# Altium integrated library National Semiconductor Interface.IntLib: 1433 symbols (part 37 of 51)
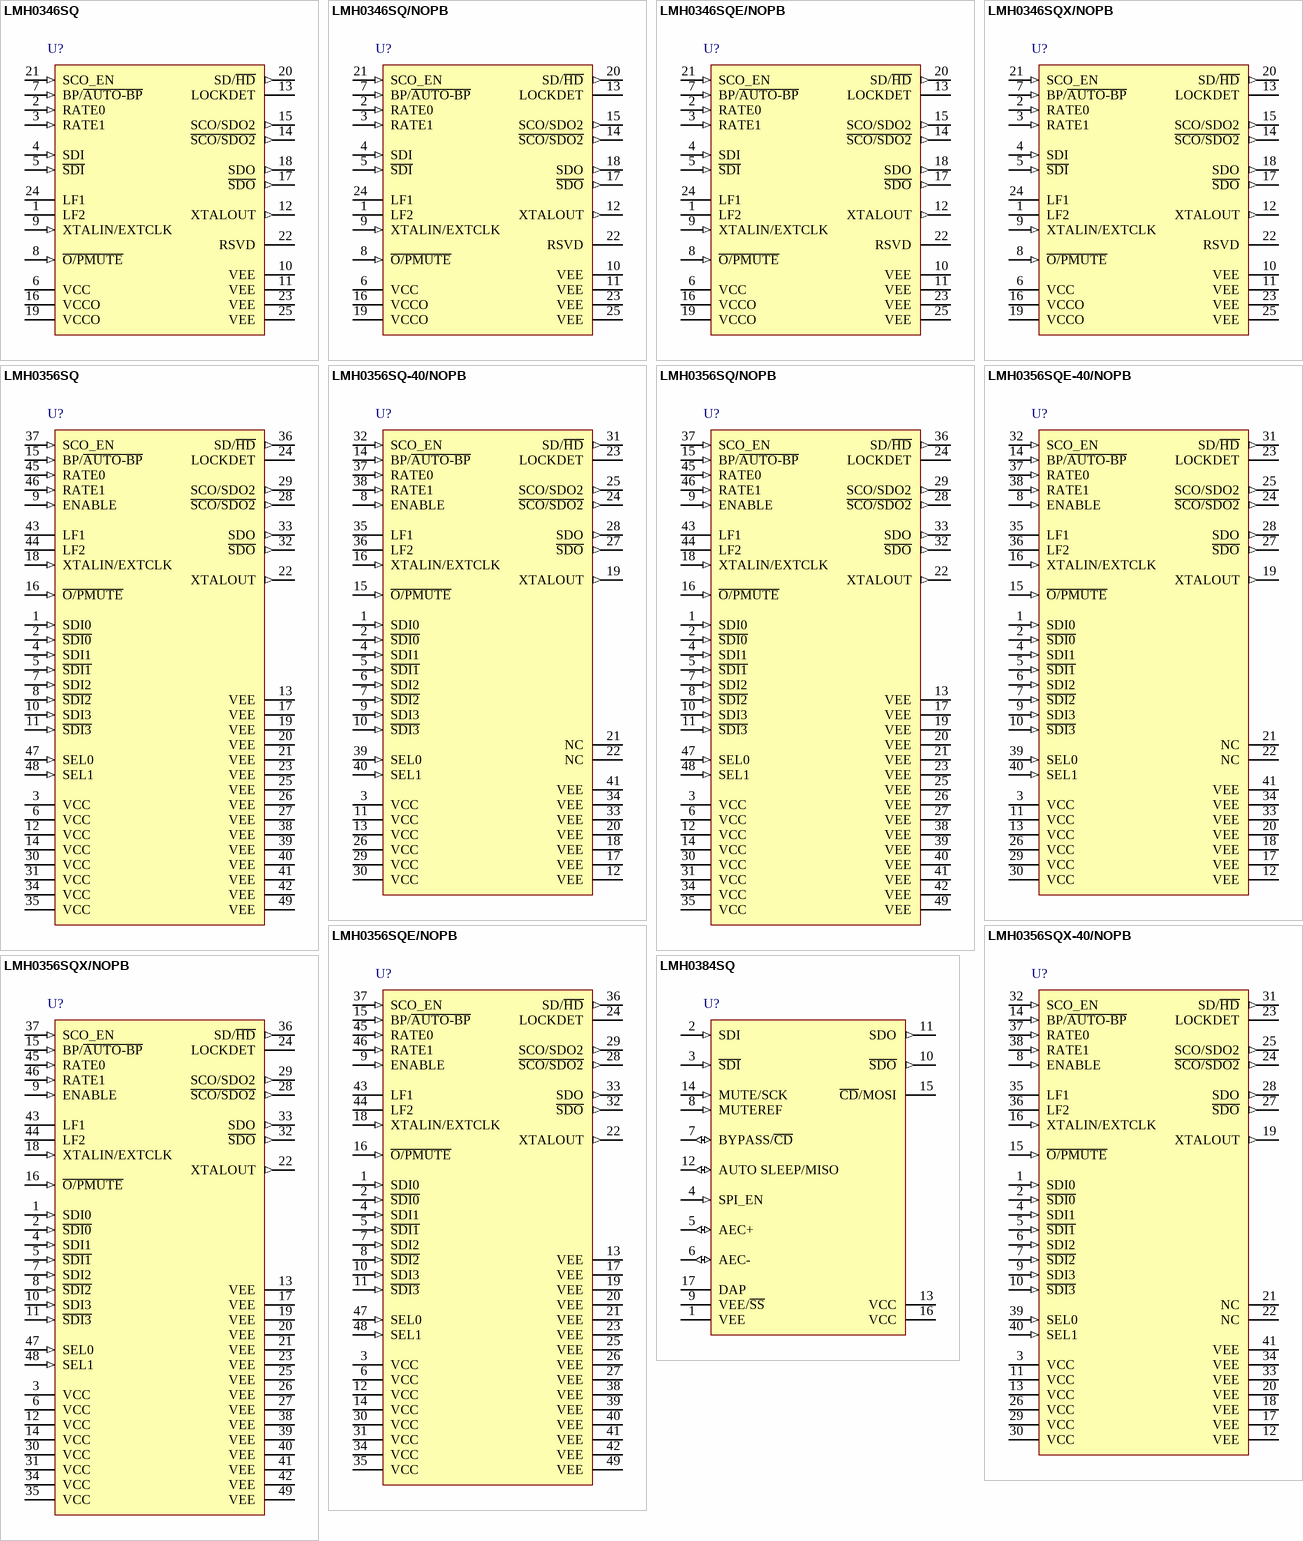
[diagram p160: symbols LMH0346SQ to LMH0384SQ]

## LMH0356SQ
designator U?
3 Gbps HD/SD SDI Reclocker with 4:1 Input Mux and FR4 EQs, 48-pin LLP; PartNumber: LMH0356SQ; Manufacturer: National Semiconductor; PackageTopMarking: NS*UZXYTT*L0356; PowerWise: N; CompType: Interface IC; High-Reliability: Y; DatasheetVersion: Nov-2009; PackageVersion: revB, May-2009; PackageReference: SQA48A; PackageDescription: LLP, Plastic, Quad, 7 x 7 x 0.8mm Body, 48 Lead, 0.5mm Pitch, No Pullback; RoHS: Y; PinCount: 48; Code_JEDEC: MO-220-WKKD-2; ComponentLink1Description: Manufacturer URL; ComponentLink1URL: http://www.national.com/; ComponentLink2Description: LMH0356 Datasheet; ComponentLink2URL: http://www.national.com/ds/LM/LMH0356.pdf; ComponentLink3Description: LMH0356 Web Page; ComponentLink3URL: http://www.national.com/pf/LM/LMH0356.html; ComponentLink4Description: SQA48A Package Page; ComponentLink4URL: http://www.national.com/packaging/folders/sqa48a.html
footprint SQA48A (QFN, 48-Leads, Body 7x7mm, Pitch 0.5mm, Thermal Pad 5.2x5.2mm, NSC Recommended)
pins: 1 SDI0 (in), 2 ~{SDI0} (in), 3 VCC (power), 4 SDI1 (in), 5 ~{SDI1} (in), 6 VCC (power), 7 SDI2 (in), 8 ~{SDI2} (in), 9 ENABLE (in), 10 SDI3 (in), 11 ~{SDI3} (in), 12 VCC (power), 13 VEE (power), 14 VCC (power), 15 BP/~{AUTO-BP} (in), 16 ~{O/PMUTE} (in), 17 VEE (power), 18 XTALIN/EXTCLK (in), 19 VEE (power), 20 VEE (power), 21 VEE (power), 22 XTALOUT (out), 23 VEE (power), 24 LOCKDET, 25 VEE (power), 26 VEE (power), 27 VEE (power), 28 ~{SCO/SDO2} (out), 29 SCO/SDO2 (out), 30 VCC (power), 31 VCC (power), 32 ~{SDO} (out), 33 SDO (out), 34 VCC (power), 35 VCC (power), 36 SD/~{HD} (out), 37 SCO_EN (in), 38 VEE (power), 39 VEE (power), 40 VEE (power), 41 VEE (power), 42 VEE (power), 43 LF1, 44 LF2, 45 RATE0 (in), 46 RATE1 (in), 47 SEL0 (in), 48 SEL1 (in), 49 VEE (power)

## LMH0356SQ-40/NOPB
designator U?
3 Gbps HD/SD SDI Reclocker with 4:1 Input Mux and FR4 EQs, 40-pin LLP, Pb-Free; PartNumber: LMH0356SQ-40/NOPB; Manufacturer: National Semiconductor; PackageTopMarking: NS*UZXYTT*L0356; PowerWise: N; CompType: Interface IC; High-Reliability: Y; DatasheetVersion: Nov-2009; PackageVersion: revB, Jul-2004; PackageReference: SQF40A; PackageDescription: LLP, Quad, 5 x 5 x 0.8mm Body, 40 Lead, 0.4mm Pitch, 3.6 x 3.6mm Exposed Pad; RoHS: Y; PinCount: 40; ComponentLink1Description: Manufacturer URL; ComponentLink1URL: http://www.national.com/; ComponentLink2Description: LMH0356 Datasheet; ComponentLink2URL: http://www.national.com/ds/LM/LMH0356.pdf; ComponentLink3Description: LMH0356 Web Page; ComponentLink3URL: http://www.national.com/pf/LM/LMH0356.html; ComponentLink4Description: SQF40A Package Page; ComponentLink4URL: http://www.national.com/packaging/folders/sqf40a.html
footprint SQF40A (QFN, 41-Leads, Body 5x5mm, Pitch 0.4mm, Thermal Pad 3.6x3.6mm, NSC Recommended)
pins: 1 SDI0 (in), 2 ~{SDI0} (in), 3 VCC (power), 4 SDI1 (in), 5 ~{SDI1} (in), 6 SDI2 (in), 7 ~{SDI2} (in), 8 ENABLE (in), 9 SDI3 (in), 10 ~{SDI3} (in), 11 VCC (power), 12 VEE (power), 13 VCC (power), 14 BP/~{AUTO-BP} (in), 15 ~{O/PMUTE} (in), 16 XTALIN/EXTCLK (in), 17 VEE (power), 18 VEE (power), 19 XTALOUT (out), 20 VEE (power), 21 NC (power), 22 NC (power), 23 LOCKDET, 24 ~{SCO/SDO2} (out), 25 SCO/SDO2 (out), 26 VCC (power), 27 ~{SDO} (out), 28 SDO (out), 29 VCC (power), 30 VCC (power), 31 SD/~{HD} (out), 32 SCO_EN (in), 33 VEE (power), 34 VEE (power), 35 LF1, 36 LF2, 37 RATE0 (in), 38 RATE1 (in), 39 SEL0 (in), 40 SEL1 (in), 41 VEE (power)

## LMH0356SQ/NOPB
designator U?
3 Gbps HD/SD SDI Reclocker with 4:1 Input Mux and FR4 EQs, 48-pin LLP, Pb-Free; PartNumber: LMH0356SQ/NOPB; Manufacturer: National Semiconductor; PackageTopMarking: NS*UZXYTTE#*L0356; PowerWise: N; CompType: Interface IC; High-Reliability: Y; DatasheetVersion: Nov-2009; PackageVersion: revB, May-2009; PackageReference: SQA48A; PackageDescription: LLP, Plastic, Quad, 7 x 7 x 0.8mm Body, 48 Lead, 0.5mm Pitch, No Pullback; RoHS: Y; PinCount: 48; Code_JEDEC: MO-220-WKKD-2; ComponentLink1Description: Manufacturer URL; ComponentLink1URL: http://www.national.com/; ComponentLink2Description: LMH0356 Datasheet; ComponentLink2URL: http://www.national.com/ds/LM/LMH0356.pdf; ComponentLink3Description: LMH0356 Web Page; ComponentLink3URL: http://www.national.com/pf/LM/LMH0356.html; ComponentLink4Description: SQA48A Package Page; ComponentLink4URL: http://www.national.com/packaging/folders/sqa48a.html
footprint SQA48A (QFN, 48-Leads, Body 7x7mm, Pitch 0.5mm, Thermal Pad 5.2x5.2mm, NSC Recommended)
pins: 1 SDI0 (in), 2 ~{SDI0} (in), 3 VCC (power), 4 SDI1 (in), 5 ~{SDI1} (in), 6 VCC (power), 7 SDI2 (in), 8 ~{SDI2} (in), 9 ENABLE (in), 10 SDI3 (in), 11 ~{SDI3} (in), 12 VCC (power), 13 VEE (power), 14 VCC (power), 15 BP/~{AUTO-BP} (in), 16 ~{O/PMUTE} (in), 17 VEE (power), 18 XTALIN/EXTCLK (in), 19 VEE (power), 20 VEE (power), 21 VEE (power), 22 XTALOUT (out), 23 VEE (power), 24 LOCKDET, 25 VEE (power), 26 VEE (power), 27 VEE (power), 28 ~{SCO/SDO2} (out), 29 SCO/SDO2 (out), 30 VCC (power), 31 VCC (power), 32 ~{SDO} (out), 33 SDO (out), 34 VCC (power), 35 VCC (power), 36 SD/~{HD} (out), 37 SCO_EN (in), 38 VEE (power), 39 VEE (power), 40 VEE (power), 41 VEE (power), 42 VEE (power), 43 LF1, 44 LF2, 45 RATE0 (in), 46 RATE1 (in), 47 SEL0 (in), 48 SEL1 (in), 49 VEE (power)

## LMH0356SQE-40/NOPB
designator U?
3 Gbps HD/SD SDI Reclocker with 4:1 Input Mux and FR4 EQs, 40-pin LLP, Pb-Free; PartNumber: LMH0356SQE-40/NOPB; Manufacturer: National Semiconductor; PackageTopMarking: NS*UZXYTT*L0356; PowerWise: N; CompType: Interface IC; High-Reliability: Y; DatasheetVersion: Nov-2009; PackageVersion: revB, Jul-2004; PackageReference: SQF40A; PackageDescription: LLP, Quad, 5 x 5 x 0.8mm Body, 40 Lead, 0.4mm Pitch, 3.6 x 3.6mm Exposed Pad; RoHS: Y; PinCount: 40; ComponentLink1Description: Manufacturer URL; ComponentLink1URL: http://www.national.com/; ComponentLink2Description: LMH0356 Datasheet; ComponentLink2URL: http://www.national.com/ds/LM/LMH0356.pdf; ComponentLink3Description: LMH0356 Web Page; ComponentLink3URL: http://www.national.com/pf/LM/LMH0356.html; ComponentLink4Description: SQF40A Package Page; ComponentLink4URL: http://www.national.com/packaging/folders/sqf40a.html
footprint SQF40A (QFN, 41-Leads, Body 5x5mm, Pitch 0.4mm, Thermal Pad 3.6x3.6mm, NSC Recommended)
pins: 1 SDI0 (in), 2 ~{SDI0} (in), 3 VCC (power), 4 SDI1 (in), 5 ~{SDI1} (in), 6 SDI2 (in), 7 ~{SDI2} (in), 8 ENABLE (in), 9 SDI3 (in), 10 ~{SDI3} (in), 11 VCC (power), 12 VEE (power), 13 VCC (power), 14 BP/~{AUTO-BP} (in), 15 ~{O/PMUTE} (in), 16 XTALIN/EXTCLK (in), 17 VEE (power), 18 VEE (power), 19 XTALOUT (out), 20 VEE (power), 21 NC (power), 22 NC (power), 23 LOCKDET, 24 ~{SCO/SDO2} (out), 25 SCO/SDO2 (out), 26 VCC (power), 27 ~{SDO} (out), 28 SDO (out), 29 VCC (power), 30 VCC (power), 31 SD/~{HD} (out), 32 SCO_EN (in), 33 VEE (power), 34 VEE (power), 35 LF1, 36 LF2, 37 RATE0 (in), 38 RATE1 (in), 39 SEL0 (in), 40 SEL1 (in), 41 VEE (power)

## LMH0356SQE/NOPB
designator U?
3 Gbps HD/SD SDI Reclocker with 4:1 Input Mux and FR4 EQs, 48-pin LLP, Pb-Free; PartNumber: LMH0356SQE/NOPB; Manufacturer: National Semiconductor; PackageTopMarking: NS*UZXYTTE#*L0356; PowerWise: N; CompType: Interface IC; High-Reliability: Y; DatasheetVersion: Nov-2009; PackageVersion: revB, May-2009; PackageReference: SQA48A; PackageDescription: LLP, Plastic, Quad, 7 x 7 x 0.8mm Body, 48 Lead, 0.5mm Pitch, No Pullback; RoHS: Y; PinCount: 48; Code_JEDEC: MO-220-WKKD-2; ComponentLink1Description: Manufacturer URL; ComponentLink1URL: http://www.national.com/; ComponentLink2Description: LMH0356 Datasheet; ComponentLink2URL: http://www.national.com/ds/LM/LMH0356.pdf; ComponentLink3Description: LMH0356 Web Page; ComponentLink3URL: http://www.national.com/pf/LM/LMH0356.html; ComponentLink4Description: SQA48A Package Page; ComponentLink4URL: http://www.national.com/packaging/folders/sqa48a.html
footprint SQA48A (QFN, 48-Leads, Body 7x7mm, Pitch 0.5mm, Thermal Pad 5.2x5.2mm, NSC Recommended)
pins: 1 SDI0 (in), 2 ~{SDI0} (in), 3 VCC (power), 4 SDI1 (in), 5 ~{SDI1} (in), 6 VCC (power), 7 SDI2 (in), 8 ~{SDI2} (in), 9 ENABLE (in), 10 SDI3 (in), 11 ~{SDI3} (in), 12 VCC (power), 13 VEE (power), 14 VCC (power), 15 BP/~{AUTO-BP} (in), 16 ~{O/PMUTE} (in), 17 VEE (power), 18 XTALIN/EXTCLK (in), 19 VEE (power), 20 VEE (power), 21 VEE (power), 22 XTALOUT (out), 23 VEE (power), 24 LOCKDET, 25 VEE (power), 26 VEE (power), 27 VEE (power), 28 ~{SCO/SDO2} (out), 29 SCO/SDO2 (out), 30 VCC (power), 31 VCC (power), 32 ~{SDO} (out), 33 SDO (out), 34 VCC (power), 35 VCC (power), 36 SD/~{HD} (out), 37 SCO_EN (in), 38 VEE (power), 39 VEE (power), 40 VEE (power), 41 VEE (power), 42 VEE (power), 43 LF1, 44 LF2, 45 RATE0 (in), 46 RATE1 (in), 47 SEL0 (in), 48 SEL1 (in), 49 VEE (power)

## LMH0356SQX-40/NOPB
designator U?
3 Gbps HD/SD SDI Reclocker with 4:1 Input Mux and FR4 EQs, 40-pin LLP, Pb-Free; PartNumber: LMH0356SQX-40/NOPB; Manufacturer: National Semiconductor; PackageTopMarking: NS*UZXYTT*L0356; PowerWise: N; CompType: Interface IC; High-Reliability: Y; DatasheetVersion: Nov-2009; PackageVersion: revB, Jul-2004; PackageReference: SQF40A; PackageDescription: LLP, Quad, 5 x 5 x 0.8mm Body, 40 Lead, 0.4mm Pitch, 3.6 x 3.6mm Exposed Pad; RoHS: Y; PinCount: 40; ComponentLink1Description: Manufacturer URL; ComponentLink1URL: http://www.national.com/; ComponentLink2Description: LMH0356 Datasheet; ComponentLink2URL: http://www.national.com/ds/LM/LMH0356.pdf; ComponentLink3Description: LMH0356 Web Page; ComponentLink3URL: http://www.national.com/pf/LM/LMH0356.html; ComponentLink4Description: SQF40A Package Page; ComponentLink4URL: http://www.national.com/packaging/folders/sqf40a.html
footprint SQF40A (QFN, 41-Leads, Body 5x5mm, Pitch 0.4mm, Thermal Pad 3.6x3.6mm, NSC Recommended)
pins: 1 SDI0 (in), 2 ~{SDI0} (in), 3 VCC (power), 4 SDI1 (in), 5 ~{SDI1} (in), 6 SDI2 (in), 7 ~{SDI2} (in), 8 ENABLE (in), 9 SDI3 (in), 10 ~{SDI3} (in), 11 VCC (power), 12 VEE (power), 13 VCC (power), 14 BP/~{AUTO-BP} (in), 15 ~{O/PMUTE} (in), 16 XTALIN/EXTCLK (in), 17 VEE (power), 18 VEE (power), 19 XTALOUT (out), 20 VEE (power), 21 NC (power), 22 NC (power), 23 LOCKDET, 24 ~{SCO/SDO2} (out), 25 SCO/SDO2 (out), 26 VCC (power), 27 ~{SDO} (out), 28 SDO (out), 29 VCC (power), 30 VCC (power), 31 SD/~{HD} (out), 32 SCO_EN (in), 33 VEE (power), 34 VEE (power), 35 LF1, 36 LF2, 37 RATE0 (in), 38 RATE1 (in), 39 SEL0 (in), 40 SEL1 (in), 41 VEE (power)

## LMH0356SQX/NOPB
designator U?
3 Gbps HD/SD SDI Reclocker with 4:1 Input Mux and FR4 EQs, 48-pin LLP, Pb-Free; PartNumber: LMH0356SQX/NOPB; Manufacturer: National Semiconductor; PackageTopMarking: NS*UZXYTTE#*L0356; PowerWise: N; CompType: Interface IC; High-Reliability: Y; DatasheetVersion: Nov-2009; PackageVersion: revB, May-2009; PackageReference: SQA48A; PackageDescription: LLP, Plastic, Quad, 7 x 7 x 0.8mm Body, 48 Lead, 0.5mm Pitch, No Pullback; RoHS: Y; PinCount: 48; Code_JEDEC: MO-220-WKKD-2; ComponentLink1Description: Manufacturer URL; ComponentLink1URL: http://www.national.com/; ComponentLink2Description: LMH0356 Datasheet; ComponentLink2URL: http://www.national.com/ds/LM/LMH0356.pdf; ComponentLink3Description: LMH0356 Web Page; ComponentLink3URL: http://www.national.com/pf/LM/LMH0356.html; ComponentLink4Description: SQA48A Package Page; ComponentLink4URL: http://www.national.com/packaging/folders/sqa48a.html
footprint SQA48A (QFN, 48-Leads, Body 7x7mm, Pitch 0.5mm, Thermal Pad 5.2x5.2mm, NSC Recommended)
pins: 1 SDI0 (in), 2 ~{SDI0} (in), 3 VCC (power), 4 SDI1 (in), 5 ~{SDI1} (in), 6 VCC (power), 7 SDI2 (in), 8 ~{SDI2} (in), 9 ENABLE (in), 10 SDI3 (in), 11 ~{SDI3} (in), 12 VCC (power), 13 VEE (power), 14 VCC (power), 15 BP/~{AUTO-BP} (in), 16 ~{O/PMUTE} (in), 17 VEE (power), 18 XTALIN/EXTCLK (in), 19 VEE (power), 20 VEE (power), 21 VEE (power), 22 XTALOUT (out), 23 VEE (power), 24 LOCKDET, 25 VEE (power), 26 VEE (power), 27 VEE (power), 28 ~{SCO/SDO2} (out), 29 SCO/SDO2 (out), 30 VCC (power), 31 VCC (power), 32 ~{SDO} (out), 33 SDO (out), 34 VCC (power), 35 VCC (power), 36 SD/~{HD} (out), 37 SCO_EN (in), 38 VEE (power), 39 VEE (power), 40 VEE (power), 41 VEE (power), 42 VEE (power), 43 LF1, 44 LF2, 45 RATE0 (in), 46 RATE1 (in), 47 SEL0 (in), 48 SEL1 (in), 49 VEE (power)

## LMH0384SQ
designator U?
3 Gbps HD/SD SDI Extended Reach and Configurable Adaptive Cable Equalizer, 16-pin LLP; PartNumber: LMH0384SQ; Manufacturer: National Semiconductor; PackageTopMarking: NS*UZXYTT*L0384; PowerWise: Y; CompType: Interface IC; DatasheetVersion: Jul-2009; PackageVersion: revA, Dec-2005; PackageReference: SQB16A; PackageDescription: LLP, Plastic, Quad, 4 x 4 x 0.8mm, 16 Lead, 0.65mm Pitch, No Pullback; RoHS: Y; PinCount: 16; High-Reliability: Y; ComponentLink1Description: Manufacturer URL; ComponentLink1URL: http://www.national.com/; ComponentLink2Description: LMH0384 Datasheet; ComponentLink2URL: http://www.national.com/ds/LM/LMH0384.pdf; ComponentLink3Description: LMH0384 Web Page; ComponentLink3URL: http://www.national.com/pf/LM/LMH0384.html; ComponentLink4Description: SQB16A Package Page; ComponentLink4URL: http://www.national.com/packaging/folders/sqb16a.html
footprint SQB16A (QFN, 16-Leads, Body 4x4mm, Pitch 0.65mm, Thermal Pad 2.6x2.6mm, NSC Recommended)
pins: 1 VEE (power), 2 SDI (in), 3 ~{SDI} (in), 4 SPI_EN (in), 5 AEC+ (io), 6 AEC- (io), 7 BYPASS/~{CD} (io), 8 MUTEREF (in), 9 VEE/~{SS}, 10 ~{SDO} (out), 11 SDO (out), 12 AUTO SLEEP/MISO (io), 13 VCC (power), 14 MUTE/SCK (in), 15 ~{CD}/MOSI, 16 VCC (power), 17 DAP (power)

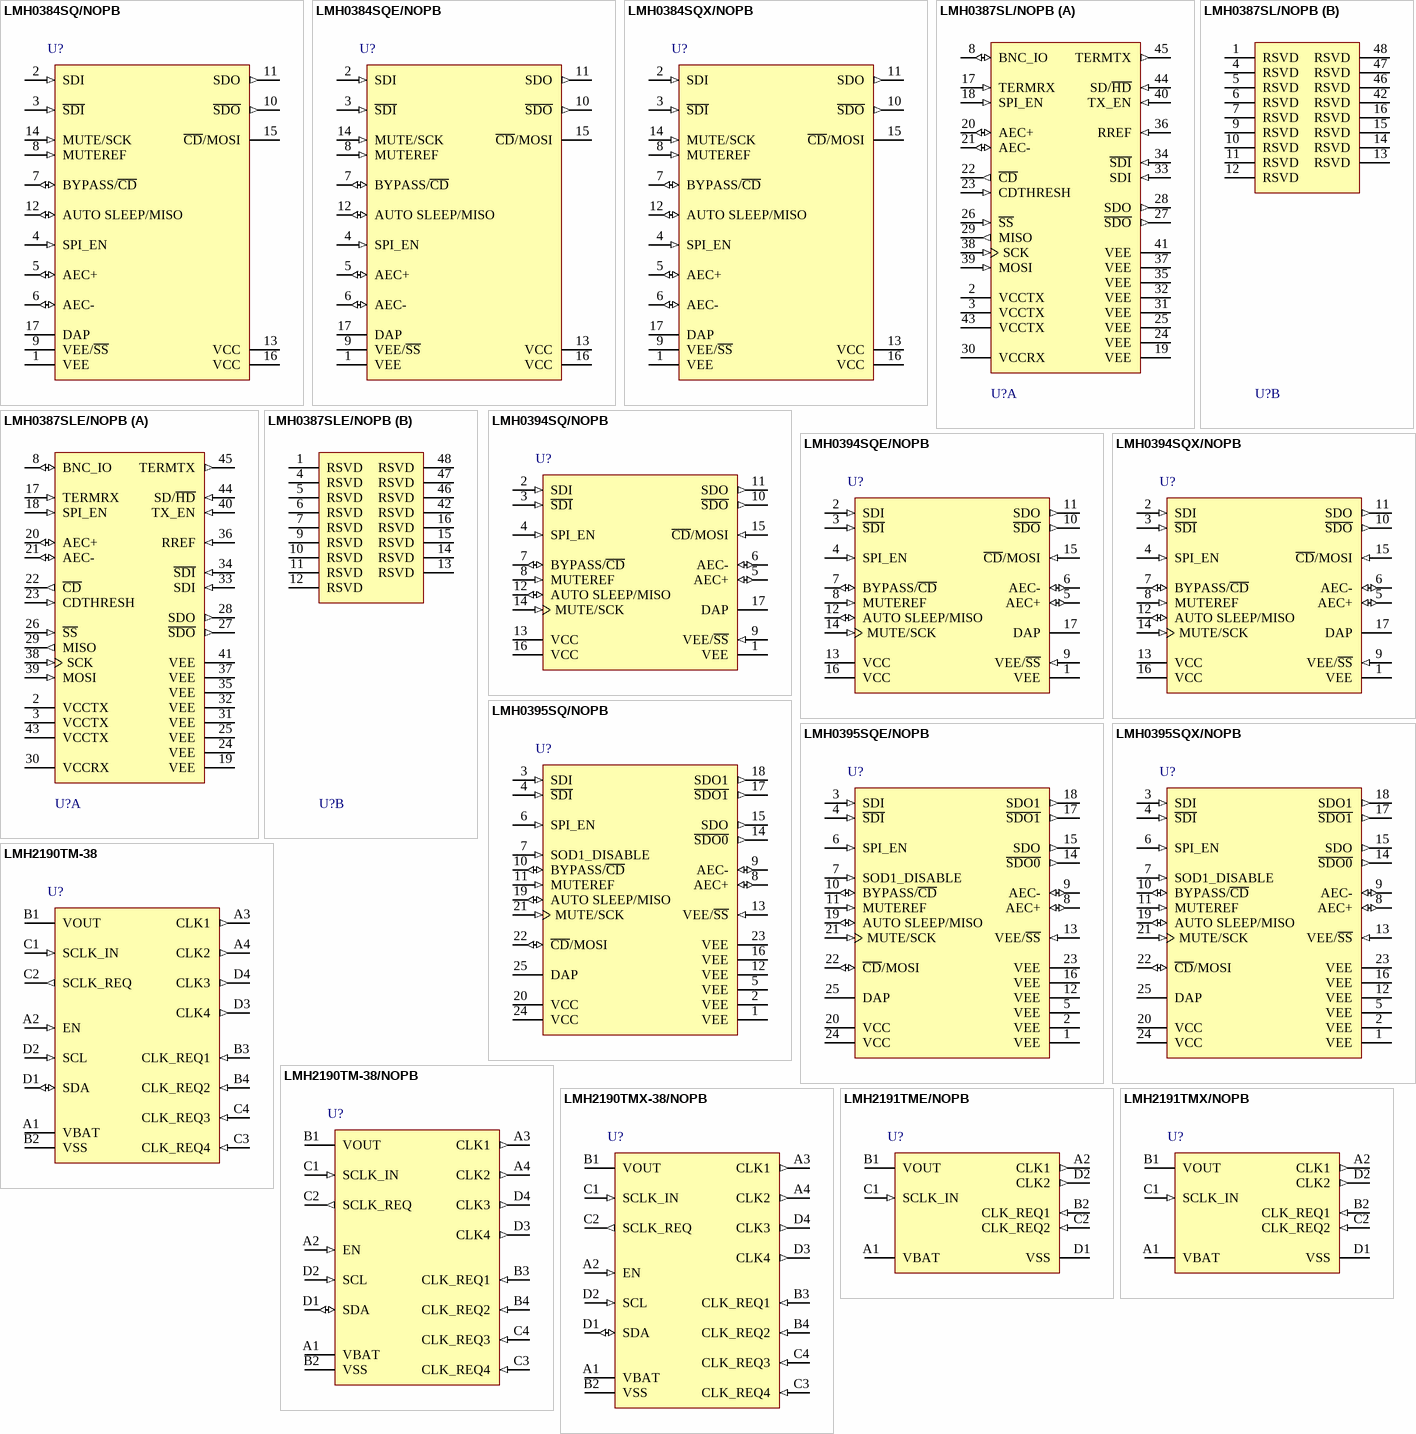
[diagram p91: symbols LMH0384SQ/NOPB to LMH2191TMX/NOPB]

## LMH0384SQ/NOPB
designator U?
3 Gbps HD/SD SDI Extended Reach and Configurable Adaptive Cable Equalizer, 16-pin LLP, Pb-Free; PartNumber: LMH0384SQ/NOPB; Manufacturer: National Semiconductor; PackageTopMarking: NS*UZXYTT*L0384; PowerWise: Y; CompType: Interface IC; DatasheetVersion: Jul-2009; PackageVersion: revA, Dec-2005; PackageReference: SQB16A; PackageDescription: LLP, Plastic, Quad, 4 x 4 x 0.8mm, 16 Lead, 0.65mm Pitch, No Pullback; RoHS: Y; PinCount: 16; High-Reliability: Y; ComponentLink1Description: Manufacturer URL; ComponentLink1URL: http://www.national.com/; ComponentLink2Description: LMH0384 Datasheet; ComponentLink2URL: http://www.national.com/ds/LM/LMH0384.pdf; ComponentLink3Description: LMH0384 Web Page; ComponentLink3URL: http://www.national.com/pf/LM/LMH0384.html; ComponentLink4Description: SQB16A Package Page; ComponentLink4URL: http://www.national.com/packaging/folders/sqb16a.html
footprint SQB16A (QFN, 16-Leads, Body 4x4mm, Pitch 0.65mm, Thermal Pad 2.6x2.6mm, NSC Recommended)
pins: 1 VEE (power), 2 SDI (in), 3 ~{SDI} (in), 4 SPI_EN (in), 5 AEC+ (io), 6 AEC- (io), 7 BYPASS/~{CD} (io), 8 MUTEREF (in), 9 VEE/~{SS}, 10 ~{SDO} (out), 11 SDO (out), 12 AUTO SLEEP/MISO (io), 13 VCC (power), 14 MUTE/SCK (in), 15 ~{CD}/MOSI, 16 VCC (power), 17 DAP (power)

## LMH0384SQE/NOPB
designator U?
3 Gbps HD/SD SDI Extended Reach and Configurable Adaptive Cable Equalizer, 16-pin LLP, Pb-Free; PartNumber: LMH0384SQE/NOPB; Manufacturer: National Semiconductor; PackageTopMarking: NS*UZXYTT*L0384; PowerWise: Y; CompType: Interface IC; DatasheetVersion: Jul-2009; PackageVersion: revA, Dec-2005; PackageReference: SQB16A; PackageDescription: LLP, Plastic, Quad, 4 x 4 x 0.8mm, 16 Lead, 0.65mm Pitch, No Pullback; RoHS: Y; PinCount: 16; High-Reliability: Y; ComponentLink1Description: Manufacturer URL; ComponentLink1URL: http://www.national.com/; ComponentLink2Description: LMH0384 Datasheet; ComponentLink2URL: http://www.national.com/ds/LM/LMH0384.pdf; ComponentLink3Description: LMH0384 Web Page; ComponentLink3URL: http://www.national.com/pf/LM/LMH0384.html; ComponentLink4Description: SQB16A Package Page; ComponentLink4URL: http://www.national.com/packaging/folders/sqb16a.html
footprint SQB16A (QFN, 16-Leads, Body 4x4mm, Pitch 0.65mm, Thermal Pad 2.6x2.6mm, NSC Recommended)
pins: 1 VEE (power), 2 SDI (in), 3 ~{SDI} (in), 4 SPI_EN (in), 5 AEC+ (io), 6 AEC- (io), 7 BYPASS/~{CD} (io), 8 MUTEREF (in), 9 VEE/~{SS}, 10 ~{SDO} (out), 11 SDO (out), 12 AUTO SLEEP/MISO (io), 13 VCC (power), 14 MUTE/SCK (in), 15 ~{CD}/MOSI, 16 VCC (power), 17 DAP (power)

## LMH0384SQX/NOPB
designator U?
3 Gbps HD/SD SDI Extended Reach and Configurable Adaptive Cable Equalizer, 16-pin LLP, Pb-Free; PartNumber: LMH0384SQX/NOPB; Manufacturer: National Semiconductor; PackageTopMarking: NS*UZXYTT*L0384; PowerWise: Y; CompType: Interface IC; DatasheetVersion: Jul-2009; PackageVersion: revA, Dec-2005; PackageReference: SQB16A; PackageDescription: LLP, Plastic, Quad, 4 x 4 x 0.8mm, 16 Lead, 0.65mm Pitch, No Pullback; RoHS: Y; PinCount: 16; High-Reliability: Y; ComponentLink1Description: Manufacturer URL; ComponentLink1URL: http://www.national.com/; ComponentLink2Description: LMH0384 Datasheet; ComponentLink2URL: http://www.national.com/ds/LM/LMH0384.pdf; ComponentLink3Description: LMH0384 Web Page; ComponentLink3URL: http://www.national.com/pf/LM/LMH0384.html; ComponentLink4Description: SQB16A Package Page; ComponentLink4URL: http://www.national.com/packaging/folders/sqb16a.html
footprint SQB16A (QFN, 16-Leads, Body 4x4mm, Pitch 0.65mm, Thermal Pad 2.6x2.6mm, NSC Recommended)
pins: 1 VEE (power), 2 SDI (in), 3 ~{SDI} (in), 4 SPI_EN (in), 5 AEC+ (io), 6 AEC- (io), 7 BYPASS/~{CD} (io), 8 MUTEREF (in), 9 VEE/~{SS}, 10 ~{SDO} (out), 11 SDO (out), 12 AUTO SLEEP/MISO (io), 13 VCC (power), 14 MUTE/SCK (in), 15 ~{CD}/MOSI, 16 VCC (power), 17 DAP (power)

## LMH0387SL/NOPB
designator U?
3 Gbps HD/SD SDI Configurable I/O Adaptive Cable Equalizer / Cable Driver, 48-pin Laminate TCSP, 1000 Reel; PartNumber: LMH0387SL/NOPB; Manufacturer: National Semiconductor; PackageTopMarking: NSUZXYTTE#*LMH0387SL; PowerWise: N; CompType: Interface IC; High-Reliability: Y; DatasheetVersion: Feb-2011; PackageVersion: revB, Feb-2010; PackageReference: SLD48A; PackageDescription: Thin CSP, Plastic, Laminate, 7 x 7 x 0.8 mm Body, 48-Lead, 0.5 mm Pitch; RoHS: Y; PinCount: 48; ComponentLink1Description: Manufacturer URL; ComponentLink1URL: http://www.national.com/; ComponentLink2Description: LMH0387 Datasheet; ComponentLink2URL: http://www.national.com/ds/LM/LMH0387.pdf; ComponentLink3Description: LMH0387 Web Page; ComponentLink3URL: http://www.national.com/pf/LM/LMH0387.html; ComponentLink4Description: SLD48A Package Page; ComponentLink4URL: http://www.national.com/packaging/folders/sld48a.html
footprint SLD48A (PQFN, 48-Leads, Body 7x7mm, Pitch 0.5mm, NSC Recommended)
part A pins: 2 VCCTX (power), 3 VCCTX (power), 8 BNC_IO (io), 17 TERMRX (in), 18 SPI_EN (in), 19 VEE (power), 20 AEC+ (io), 21 AEC- (io), 22 ~{CD} (out), 23 CDTHRESH (in), 24 VEE (power), 25 VEE (power), 26 ~{SS} (in), 27 ~{SDO} (out), 28 SDO (out), 29 MISO (out), 30 VCCRX (power), 31 VEE (power), 32 VEE (power), 33 SDI (in), 34 ~{SDI} (in), 35 VEE (power), 36 RREF (in), 37 VEE (power), 38 SCK (in), 39 MOSI (in), 40 TX_EN (in), 41 VEE (power), 43 VCCTX (power), 44 SD/~{HD} (in), 45 TERMTX (out)
part B pins: 1 RSVD, 4 RSVD, 5 RSVD, 6 RSVD, 7 RSVD, 9 RSVD, 10 RSVD, 11 RSVD, 12 RSVD, 13 RSVD, 14 RSVD, 15 RSVD, 16 RSVD, 42 RSVD, 46 RSVD, 47 RSVD, 48 RSVD

## LMH0387SLE/NOPB
designator U?
3 Gbps HD/SD SDI Configurable I/O Adaptive Cable Equalizer / Cable Driver, 48-pin Laminate TCSP, 250 Reel; PartNumber: LMH0387SLE/NOPB; Manufacturer: National Semiconductor; PackageTopMarking: NSUZXYTTE#*LMH0387SL; PowerWise: N; CompType: Interface IC; High-Reliability: Y; DatasheetVersion: Feb-2011; PackageVersion: revB, Feb-2010; PackageReference: SLD48A; PackageDescription: Thin CSP, Plastic, Laminate, 7 x 7 x 0.8 mm Body, 48-Lead, 0.5 mm Pitch; RoHS: Y; PinCount: 48; ComponentLink1Description: Manufacturer URL; ComponentLink1URL: http://www.national.com/; ComponentLink2Description: LMH0387 Datasheet; ComponentLink2URL: http://www.national.com/ds/LM/LMH0387.pdf; ComponentLink3Description: LMH0387 Web Page; ComponentLink3URL: http://www.national.com/pf/LM/LMH0387.html; ComponentLink4Description: SLD48A Package Page; ComponentLink4URL: http://www.national.com/packaging/folders/sld48a.html
footprint SLD48A (PQFN, 48-Leads, Body 7x7mm, Pitch 0.5mm, NSC Recommended)
part A pins: 2 VCCTX (power), 3 VCCTX (power), 8 BNC_IO (io), 17 TERMRX (in), 18 SPI_EN (in), 19 VEE (power), 20 AEC+ (io), 21 AEC- (io), 22 ~{CD} (out), 23 CDTHRESH (in), 24 VEE (power), 25 VEE (power), 26 ~{SS} (in), 27 ~{SDO} (out), 28 SDO (out), 29 MISO (out), 30 VCCRX (power), 31 VEE (power), 32 VEE (power), 33 SDI (in), 34 ~{SDI} (in), 35 VEE (power), 36 RREF (in), 37 VEE (power), 38 SCK (in), 39 MOSI (in), 40 TX_EN (in), 41 VEE (power), 43 VCCTX (power), 44 SD/~{HD} (in), 45 TERMTX (out)
part B pins: 1 RSVD, 4 RSVD, 5 RSVD, 6 RSVD, 7 RSVD, 9 RSVD, 10 RSVD, 11 RSVD, 12 RSVD, 13 RSVD, 14 RSVD, 15 RSVD, 16 RSVD, 42 RSVD, 46 RSVD, 47 RSVD, 48 RSVD

## LMH0394SQ/NOPB
designator U?
3G HD/SD SDI Low Power Extended Reach Adaptive Cable Equalizer, 16-pin LLP, 1000 Reel; PartNumber: LMH0394SQ/NOPB; Manufacturer: National Semiconductor; PackageTopMarking: NS*UZXYTT*L0394; PowerWise: Y; CompType: Interface IC; DatasheetVersion: Apr-2011; PackageVersion: revA, Dec-2005; PackageReference: SQB16A; PackageDescription: LLP, Plastic, Quad, 4 x 4 x 0.8mm, 16 Lead, 0.65mm Pitch, No Pullback; RoHS: Y; PinCount: 16; High-Reliability: Y; ComponentLink1Description: Manufacturer URL; ComponentLink1URL: http://www.national.com/; ComponentLink2Description: LMH0394 Datasheet; ComponentLink2URL: http://www.national.com/ds/LM/LMH0394.pdf; ComponentLink3Description: LMH0394 Web Page; ComponentLink3URL: http://www.national.com/pf/LM/LMH0394.html; ComponentLink4Description: SQB16A Package Page; ComponentLink4URL: http://www.national.com/packaging/folders/sqb16a.html
footprint SQB16A (QFN, 16-Leads, Body 4x4mm, Pitch 0.65mm, Thermal Pad 2.6x2.6mm, NSC Recommended)
pins: 1 VEE (power), 2 SDI (in), 3 ~{SDI} (in), 4 SPI_EN (in), 5 AEC+ (io), 6 AEC- (io), 7 BYPASS/~{CD} (io), 8 MUTEREF (in), 9 VEE/~{SS} (in), 10 ~{SDO} (out), 11 SDO (out), 12 AUTO SLEEP/MISO (io), 13 VCC (power), 14 MUTE/SCK (in), 15 ~{CD}/MOSI (in), 16 VCC (power), 17 DAP (power)

## LMH0394SQE/NOPB
designator U?
3G HD/SD SDI Low Power Extended Reach Adaptive Cable Equalizer, 16-pin LLP, 250 Reel; PartNumber: LMH0394SQE/NOPB; Manufacturer: National Semiconductor; PackageTopMarking: NS*UZXYTT*L0394; PowerWise: Y; CompType: Interface IC; DatasheetVersion: Apr-2011; PackageVersion: revA, Dec-2005; PackageReference: SQB16A; PackageDescription: LLP, Plastic, Quad, 4 x 4 x 0.8mm, 16 Lead, 0.65mm Pitch, No Pullback; RoHS: Y; PinCount: 16; High-Reliability: Y; ComponentLink1Description: Manufacturer URL; ComponentLink1URL: http://www.national.com/; ComponentLink2Description: LMH0394 Datasheet; ComponentLink2URL: http://www.national.com/ds/LM/LMH0394.pdf; ComponentLink3Description: LMH0394 Web Page; ComponentLink3URL: http://www.national.com/pf/LM/LMH0394.html; ComponentLink4Description: SQB16A Package Page; ComponentLink4URL: http://www.national.com/packaging/folders/sqb16a.html
footprint SQB16A (QFN, 16-Leads, Body 4x4mm, Pitch 0.65mm, Thermal Pad 2.6x2.6mm, NSC Recommended)
pins: 1 VEE (power), 2 SDI (in), 3 ~{SDI} (in), 4 SPI_EN (in), 5 AEC+ (io), 6 AEC- (io), 7 BYPASS/~{CD} (io), 8 MUTEREF (in), 9 VEE/~{SS} (in), 10 ~{SDO} (out), 11 SDO (out), 12 AUTO SLEEP/MISO (io), 13 VCC (power), 14 MUTE/SCK (in), 15 ~{CD}/MOSI (in), 16 VCC (power), 17 DAP (power)

## LMH0394SQX/NOPB
designator U?
3G HD/SD SDI Low Power Extended Reach Adaptive Cable Equalizer, 16-pin LLP, 4500 Reel; PartNumber: LMH0394SQX/NOPB; Manufacturer: National Semiconductor; PackageTopMarking: NS*UZXYTT*L0394; PowerWise: Y; CompType: Interface IC; DatasheetVersion: Apr-2011; PackageVersion: revA, Dec-2005; PackageReference: SQB16A; PackageDescription: LLP, Plastic, Quad, 4 x 4 x 0.8mm, 16 Lead, 0.65mm Pitch, No Pullback; RoHS: Y; PinCount: 16; High-Reliability: Y; ComponentLink1Description: Manufacturer URL; ComponentLink1URL: http://www.national.com/; ComponentLink2Description: LMH0394 Datasheet; ComponentLink2URL: http://www.national.com/ds/LM/LMH0394.pdf; ComponentLink3Description: LMH0394 Web Page; ComponentLink3URL: http://www.national.com/pf/LM/LMH0394.html; ComponentLink4Description: SQB16A Package Page; ComponentLink4URL: http://www.national.com/packaging/folders/sqb16a.html
footprint SQB16A (QFN, 16-Leads, Body 4x4mm, Pitch 0.65mm, Thermal Pad 2.6x2.6mm, NSC Recommended)
pins: 1 VEE (power), 2 SDI (in), 3 ~{SDI} (in), 4 SPI_EN (in), 5 AEC+ (io), 6 AEC- (io), 7 BYPASS/~{CD} (io), 8 MUTEREF (in), 9 VEE/~{SS} (in), 10 ~{SDO} (out), 11 SDO (out), 12 AUTO SLEEP/MISO (io), 13 VCC (power), 14 MUTE/SCK (in), 15 ~{CD}/MOSI (in), 16 VCC (power), 17 DAP (power)

## LMH0395SQ/NOPB
designator U?
3G HD/SD SDI Dual Output Low Power Extended Reach Adaptive Cable Equalizer, 24-pin LLP, 1000 Reel; PartNumber: LMH0395SQ/NOPB; Manufacturer: National Semiconductor; PackageTopMarking: NS*UZXYTT*L0395; PowerWise: Y; CompType: Interface IC; DatasheetVersion: Apr-2011; PackageVersion: revB, Aug-2003; PackageReference: SQA24A; PackageDescription: LLP, Plastic, Quad, 4 x 4 x 0.8mm Body, 24 Lead, 0.5mm Pitch, No Pullback; RoHS: Y; PinCount: 24; High-Reliability: Y; Code_JEDEC: MO-220-WGGD-6; ComponentLink1Description: Manufacturer URL; ComponentLink1URL: http://www.national.com/; ComponentLink2Description: LMH0395 Datasheet; ComponentLink2URL: http://www.national.com/ds/LM/LMH0395.pdf; ComponentLink3Description: LMH0395 Web Page; ComponentLink3URL: http://www.national.com/pf/LM/LMH0395.html; ComponentLink4Description: SQA24A Package Page; ComponentLink4URL: http://www.national.com/packaging/folders/sqa24a.html
footprint SQA24A (QFN, 24-Leads, Body 4x4mm, Pitch 0.5mm, Thermal Pad 2.7x2.7mm, NSC Recommended)
pins: 1 VEE (power), 2 VEE (power), 3 SDI (in), 4 ~{SDI} (in), 5 VEE (power), 6 SPI_EN (in), 7 SOD1_DISABLE (in), 8 AEC+ (io), 9 AEC- (io), 10 BYPASS/~{CD} (io), 11 MUTEREF (in), 12 VEE (power), 13 VEE/~{SS} (in), 14 ~{SDO0} (out), 15 SDO (out), 16 VEE (power), 17 ~{SDO1} (out), 18 SDO1 (out), 19 AUTO SLEEP/MISO (io), 20 VCC (power), 21 MUTE/SCK (in), 22 ~{CD}/MOSI (io), 23 VEE (power), 24 VCC (power), 25 DAP (power)

## LMH0395SQE/NOPB
designator U?
3G HD/SD SDI Dual Output Low Power Extended Reach Adaptive Cable Equalizer, 24-pin LLP, 250 Reel; PartNumber: LMH0395SQE/NOPB; Manufacturer: National Semiconductor; PackageTopMarking: NS*UZXYTT*L0395; PowerWise: Y; CompType: Interface IC; DatasheetVersion: Apr-2011; PackageVersion: revB, Aug-2003; PackageReference: SQA24A; PackageDescription: LLP, Plastic, Quad, 4 x 4 x 0.8mm Body, 24 Lead, 0.5mm Pitch, No Pullback; RoHS: Y; PinCount: 24; High-Reliability: Y; Code_JEDEC: MO-220-WGGD-6; ComponentLink1Description: Manufacturer URL; ComponentLink1URL: http://www.national.com/; ComponentLink2Description: LMH0395 Datasheet; ComponentLink2URL: http://www.national.com/ds/LM/LMH0395.pdf; ComponentLink3Description: LMH0395 Web Page; ComponentLink3URL: http://www.national.com/pf/LM/LMH0395.html; ComponentLink4Description: SQA24A Package Page; ComponentLink4URL: http://www.national.com/packaging/folders/sqa24a.html
footprint SQA24A (QFN, 24-Leads, Body 4x4mm, Pitch 0.5mm, Thermal Pad 2.7x2.7mm, NSC Recommended)
pins: 1 VEE (power), 2 VEE (power), 3 SDI (in), 4 ~{SDI} (in), 5 VEE (power), 6 SPI_EN (in), 7 SOD1_DISABLE (in), 8 AEC+ (io), 9 AEC- (io), 10 BYPASS/~{CD} (io), 11 MUTEREF (in), 12 VEE (power), 13 VEE/~{SS} (in), 14 ~{SDO0} (out), 15 SDO (out), 16 VEE (power), 17 ~{SDO1} (out), 18 SDO1 (out), 19 AUTO SLEEP/MISO (io), 20 VCC (power), 21 MUTE/SCK (in), 22 ~{CD}/MOSI (io), 23 VEE (power), 24 VCC (power), 25 DAP (power)

## LMH0395SQX/NOPB
designator U?
3G HD/SD SDI Dual Output Low Power Extended Reach Adaptive Cable Equalizer, 24-pin LLP, 4500 Reel; PartNumber: LMH0395SQX/NOPB; Manufacturer: National Semiconductor; PackageTopMarking: NS*UZXYTT*L0395; PowerWise: Y; CompType: Interface IC; DatasheetVersion: Apr-2011; PackageVersion: revB, Aug-2003; PackageReference: SQA24A; PackageDescription: LLP, Plastic, Quad, 4 x 4 x 0.8mm Body, 24 Lead, 0.5mm Pitch, No Pullback; RoHS: Y; PinCount: 24; High-Reliability: Y; Code_JEDEC: MO-220-WGGD-6; ComponentLink1Description: Manufacturer URL; ComponentLink1URL: http://www.national.com/; ComponentLink2Description: LMH0395 Datasheet; ComponentLink2URL: http://www.national.com/ds/LM/LMH0395.pdf; ComponentLink3Description: LMH0395 Web Page; ComponentLink3URL: http://www.national.com/pf/LM/LMH0395.html; ComponentLink4Description: SQA24A Package Page; ComponentLink4URL: http://www.national.com/packaging/folders/sqa24a.html
footprint SQA24A (QFN, 24-Leads, Body 4x4mm, Pitch 0.5mm, Thermal Pad 2.7x2.7mm, NSC Recommended)
pins: 1 VEE (power), 2 VEE (power), 3 SDI (in), 4 ~{SDI} (in), 5 VEE (power), 6 SPI_EN (in), 7 SOD1_DISABLE (in), 8 AEC+ (io), 9 AEC- (io), 10 BYPASS/~{CD} (io), 11 MUTEREF (in), 12 VEE (power), 13 VEE/~{SS} (in), 14 ~{SDO0} (out), 15 SDO (out), 16 VEE (power), 17 ~{SDO1} (out), 18 SDO1 (out), 19 AUTO SLEEP/MISO (io), 20 VCC (power), 21 MUTE/SCK (in), 22 ~{CD}/MOSI (io), 23 VEE (power), 24 VCC (power), 25 DAP (power)

## LMH2190TM-38
designator U?
Quad Channel 26 MHz Clock Tree Driver with I2C Interface, 16-pin Micro SMD; PartNumber: LMH2190TM-38; Manufacturer: National Semiconductor; PackageTopMarking: XYTT*I AA; PowerWise: N; CompType: Interface IC; High-Reliability: Y; DatasheetVersion: Oct-2009; PackageVersion: revA, 2009; PackageReference: TMD16AAA; PackageDescription: Thin Micro SMD, 16 Bump, 0.4mm Pitch; RoHS: Y; PinCount: 16; ComponentLink1Description: Manufacturer URL; ComponentLink1URL: http://www.national.com/; ComponentLink2Description: LMH2190 Datasheet; ComponentLink2URL: http://www.national.com/ds/LM/LMH2190.pdf; ComponentLink3Description: LMH2190 Web Page; ComponentLink3URL: http://www.national.com/pf/LM/LMH2190.html
footprint TMD16AAA (Micro SMD, 16-Leads, Body 1.62x1.62mm, Pitch 0.4mm, NSC Recommended)
pins: A1 VBAT (power), A2 EN (in), A3 CLK1 (out), A4 CLK2 (out), B1 VOUT (power), B2 VSS (power), B3 CLK_REQ1 (in), B4 CLK_REQ2 (in), C1 SCLK_IN (in), C2 SCLK_REQ (out), C3 CLK_REQ4 (in), C4 CLK_REQ3 (in), D1 SDA (io), D2 SCL (in), D3 CLK4 (out), D4 CLK3 (out)

## LMH2190TM-38/NOPB
designator U?
Quad Channel 27 MHz Clock Tree Driver with I2C Interface, 16-pin Micro SMD, Pb-Free; PartNumber: LMH2190TM-38/NOPB; Manufacturer: National Semiconductor; PackageTopMarking: XYTT*I AA; PowerWise: N; CompType: Interface IC; High-Reliability: Y; DatasheetVersion: Oct-2009; PackageVersion: revA, 2009; PackageReference: TMD16AAA; PackageDescription: Thin Micro SMD, 16 Bump, 0.4mm Pitch; RoHS: Y; PinCount: 16; ComponentLink1Description: Manufacturer URL; ComponentLink1URL: http://www.national.com/; ComponentLink2Description: LMH2190 Datasheet; ComponentLink2URL: http://www.national.com/ds/LM/LMH2190.pdf; ComponentLink3Description: LMH2190 Web Page; ComponentLink3URL: http://www.national.com/pf/LM/LMH2190.html; ComponentLink4Description: TMD16AAA Package Page; ComponentLink4URL: http://www.national.com/packaging/folders/tmd16aaa.html
footprint TMD16AAA (Micro SMD, 16-Leads, Body 1.62x1.62mm, Pitch 0.4mm, NSC Recommended)
pins: A1 VBAT (power), A2 EN (in), A3 CLK1 (out), A4 CLK2 (out), B1 VOUT (power), B2 VSS (power), B3 CLK_REQ1 (in), B4 CLK_REQ2 (in), C1 SCLK_IN (in), C2 SCLK_REQ (out), C3 CLK_REQ4 (in), C4 CLK_REQ3 (in), D1 SDA (io), D2 SCL (in), D3 CLK4 (out), D4 CLK3 (out)

## LMH2190TMX-38/NOPB
designator U?
Quad Channel 27 MHz Clock Tree Driver with I2C Interface, 16-pin Micro SMD, Pb-Free; PartNumber: LMH2190TMX-38/NOPB; Manufacturer: National Semiconductor; PackageTopMarking: XYTT*I AA; PowerWise: N; CompType: Interface IC; High-Reliability: Y; DatasheetVersion: Oct-2009; PackageVersion: revA, 2009; PackageReference: TMD16AAA; PackageDescription: Thin Micro SMD, 16 Bump, 0.4mm Pitch; RoHS: Y; PinCount: 16; ComponentLink1Description: Manufacturer URL; ComponentLink1URL: http://www.national.com/; ComponentLink2Description: LMH2190 Datasheet; ComponentLink2URL: http://www.national.com/ds/LM/LMH2190.pdf; ComponentLink3Description: LMH2190 Web Page; ComponentLink3URL: http://www.national.com/pf/LM/LMH2190.html; ComponentLink4Description: TMD16AAA Package Page; ComponentLink4URL: http://www.national.com/packaging/folders/tmd16aaa.html
footprint TMD16AAA (Micro SMD, 16-Leads, Body 1.62x1.62mm, Pitch 0.4mm, NSC Recommended)
pins: A1 VBAT (power), A2 EN (in), A3 CLK1 (out), A4 CLK2 (out), B1 VOUT (power), B2 VSS (power), B3 CLK_REQ1 (in), B4 CLK_REQ2 (in), C1 SCLK_IN (in), C2 SCLK_REQ (out), C3 CLK_REQ4 (in), C4 CLK_REQ3 (in), D1 SDA (io), D2 SCL (in), D3 CLK4 (out), D4 CLK3 (out)

## LMH2191TME/NOPB
designator U?
Dual Channel 52 MHz Clock Tree Driver, 8 pin MICRO SMD; PartNumber: LMH2191TME/NOPB; Manufacturer: National Semiconductor; PackageTopMarking: XV*I 5; PowerWise: N; CompType: Interface IC; High-Reliability: Y; DatasheetVersion: Jul-2010; PackageVersion: revA, 2010; PackageReference: TMP08LAA; PackageDescription: Thin Micro SMD, 8 Bump, 0.4mm Pitch; RoHS: Y; PinCount: 8; ComponentLink1Description: Manufacturer URL; ComponentLink1URL: http://www.national.com/; ComponentLink2Description: LMH2191 Datasheet; ComponentLink2URL: http://www.national.com/ds/LM/LMH2191.pdf; ComponentLink3Description: LMH2191 Web Page; ComponentLink3URL: http://www.national.com/pf/LM/LMH2191.html; ComponentLink4Description: TMP08LAA Package Page; ComponentLink4URL: http://www.national.com/packaging/folders/tmp08laa.html
footprint TMP08LAA (Micro SMD, 8-Leads, Body 1.62x1.07mm, Pitch 0.4mm, NSC Recommended)
pins: A1 VBAT (power), A2 CLK1 (out), B1 VOUT (power), B2 CLK_REQ1 (in), C1 SCLK_IN (in), C2 CLK_REQ2 (in), D1 VSS (power), D2 CLK2 (out)

## LMH2191TMX/NOPB
designator U?
Dual Channel 52 MHz Clock Tree Driver, 8 pin MICRO SMD; PartNumber: LMH2191TMX/NOPB; Manufacturer: National Semiconductor; PackageTopMarking: XV*I 5; PowerWise: N; CompType: Interface IC; High-Reliability: Y; DatasheetVersion: Jul-2010; PackageVersion: revA, 2010; PackageReference: TMP08LAA; PackageDescription: Thin Micro SMD, 8 Bump, 0.4mm Pitch; RoHS: Y; PinCount: 8; ComponentLink1Description: Manufacturer URL; ComponentLink1URL: http://www.national.com/; ComponentLink2Description: LMH2191 Datasheet; ComponentLink2URL: http://www.national.com/ds/LM/LMH2191.pdf; ComponentLink3Description: LMH2191 Web Page; ComponentLink3URL: http://www.national.com/pf/LM/LMH2191.html; ComponentLink4Description: TMP08LAA Package Page; ComponentLink4URL: http://www.national.com/packaging/folders/tmp08laa.html
footprint TMP08LAA (Micro SMD, 8-Leads, Body 1.62x1.07mm, Pitch 0.4mm, NSC Recommended)
pins: A1 VBAT (power), A2 CLK1 (out), B1 VOUT (power), B2 CLK_REQ1 (in), C1 SCLK_IN (in), C2 CLK_REQ2 (in), D1 VSS (power), D2 CLK2 (out)

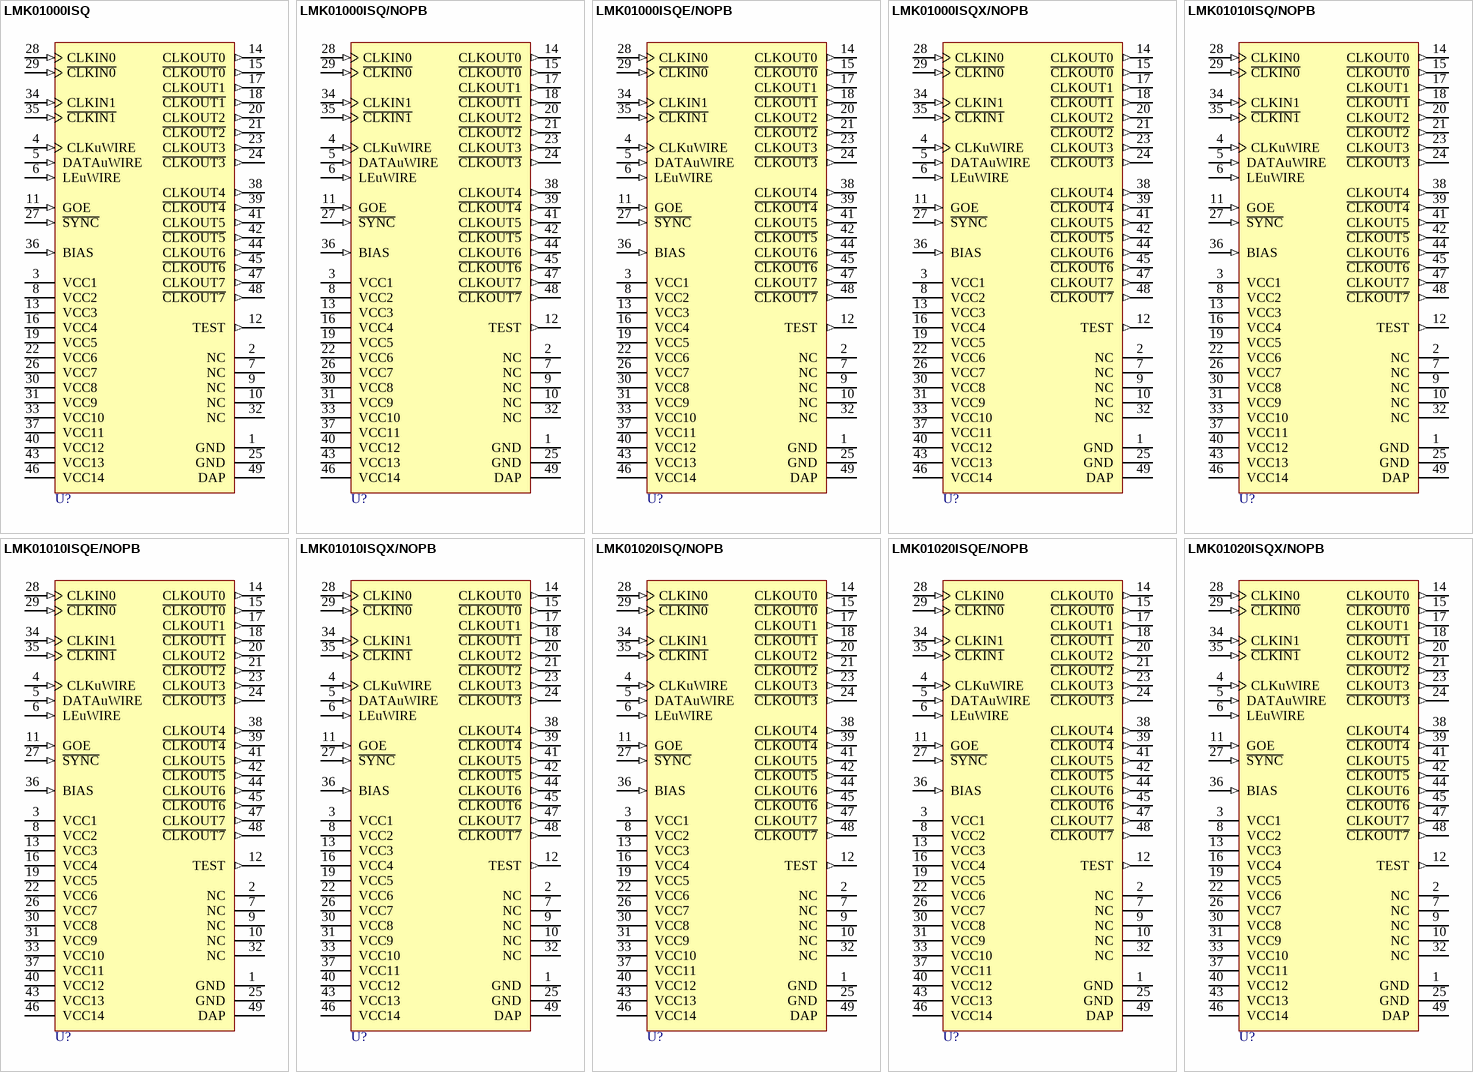
[diagram p92: symbols LMK01000ISQ to LMK01020ISQX/NOPB]

## LMK01000ISQ
designator U?
1.6 GHz High Performance Clock Buffer, Divider, and Distributor, 48-pin LLP; PartNumber: LMK01000ISQ; Manufacturer: National Semiconductor; PackageTopMarking: NS*UZXYTT*K01000 I; PowerWise: N; CompType: Interface IC; High-Reliability: Y; DatasheetVersion: Jul-2009; PackageVersion: revB, May-2009; PackageReference: SQA48A; PackageDescription: LLP, Plastic, Quad, 7 x 7 x 0.8mm Body, 48 Lead, 0.5mm Pitch, No Pullback; RoHS: Y; PinCount: 48; Code_JEDEC: MO-220-WKKD-2; ComponentLink1Description: Manufacturer URL; ComponentLink1URL: http://www.national.com/; ComponentLink2Description: LMK01000 Datasheet; ComponentLink2URL: http://www.national.com/ds/LM/LMK01000.pdf; ComponentLink3Description: LMK01000 Web Page; ComponentLink3URL: http://www.national.com/pf/LM/LMK01000.html; ComponentLink4Description: SQA48A Package Page; ComponentLink4URL: http://www.national.com/packaging/folders/sqa48a.html
footprint SQA48A (QFN, 48-Leads, Body 7x7mm, Pitch 0.5mm, Thermal Pad 5.2x5.2mm, NSC Recommended)
pins: 1 GND (power), 2 NC, 3 VCC1 (power), 4 CLKuWIRE (in), 5 DATAuWIRE (in), 6 LEuWIRE (in), 7 NC, 8 VCC2 (power), 9 NC, 10 NC, 11 GOE (in), 12 TEST (out), 13 VCC3 (power), 14 CLKOUT0 (out), 15 ~{CLKOUT0} (out), 16 VCC4 (power), 17 CLKOUT1 (out), 18 ~{CLKOUT1} (out), 19 VCC5 (power), 20 CLKOUT2 (out), 21 ~{CLKOUT2} (out), 22 VCC6 (power), 23 CLKOUT3 (out), 24 ~{CLKOUT3} (out), 25 GND (power), 26 VCC7 (power), 27 ~{SYNC} (in), 28 CLKIN0 (in), 29 ~{CLKIN0} (in), 30 VCC8 (power), 31 VCC9 (power), 32 NC, 33 VCC10 (power), 34 CLKIN1 (in), 35 ~{CLKIN1} (in), 36 BIAS (in), 37 VCC11 (power), 38 CLKOUT4 (out), 39 ~{CLKOUT4} (out), 40 VCC12 (power), 41 CLKOUT5 (out), 42 ~{CLKOUT5} (out), 43 VCC13 (power), 44 CLKOUT6 (out), 45 ~{CLKOUT6} (out), 46 VCC14 (power), 47 CLKOUT7 (out), 48 ~{CLKOUT7} (out), 49 DAP (power)

## LMK01000ISQ/NOPB
designator U?
1.6 GHz High Performance Clock Buffer, Divider, and Distributor, 48-pin LLP, Pb-Free; PartNumber: LMK01000ISQ/NOPB; Manufacturer: National Semiconductor; PackageTopMarking: NS*UZXYTTE#*K01000 I; PowerWise: N; CompType: Interface IC; High-Reliability: Y; DatasheetVersion: Jul-2009; PackageVersion: revB, May-2009; PackageReference: SQA48A; PackageDescription: LLP, Plastic, Quad, 7 x 7 x 0.8mm Body, 48 Lead, 0.5mm Pitch, No Pullback; RoHS: Y; PinCount: 48; Code_JEDEC: MO-220-WKKD-2; ComponentLink1Description: Manufacturer URL; ComponentLink1URL: http://www.national.com/; ComponentLink2Description: LMK01000 Datasheet; ComponentLink2URL: http://www.national.com/ds/LM/LMK01000.pdf; ComponentLink3Description: LMK01000 Web Page; ComponentLink3URL: http://www.national.com/pf/LM/LMK01000.html; ComponentLink4Description: SQA48A Package Page; ComponentLink4URL: http://www.national.com/packaging/folders/sqa48a.html
footprint SQA48A (QFN, 48-Leads, Body 7x7mm, Pitch 0.5mm, Thermal Pad 5.2x5.2mm, NSC Recommended)
pins: 1 GND (power), 2 NC, 3 VCC1 (power), 4 CLKuWIRE (in), 5 DATAuWIRE (in), 6 LEuWIRE (in), 7 NC, 8 VCC2 (power), 9 NC, 10 NC, 11 GOE (in), 12 TEST (out), 13 VCC3 (power), 14 CLKOUT0 (out), 15 ~{CLKOUT0} (out), 16 VCC4 (power), 17 CLKOUT1 (out), 18 ~{CLKOUT1} (out), 19 VCC5 (power), 20 CLKOUT2 (out), 21 ~{CLKOUT2} (out), 22 VCC6 (power), 23 CLKOUT3 (out), 24 ~{CLKOUT3} (out), 25 GND (power), 26 VCC7 (power), 27 ~{SYNC} (in), 28 CLKIN0 (in), 29 ~{CLKIN0} (in), 30 VCC8 (power), 31 VCC9 (power), 32 NC, 33 VCC10 (power), 34 CLKIN1 (in), 35 ~{CLKIN1} (in), 36 BIAS (in), 37 VCC11 (power), 38 CLKOUT4 (out), 39 ~{CLKOUT4} (out), 40 VCC12 (power), 41 CLKOUT5 (out), 42 ~{CLKOUT5} (out), 43 VCC13 (power), 44 CLKOUT6 (out), 45 ~{CLKOUT6} (out), 46 VCC14 (power), 47 CLKOUT7 (out), 48 ~{CLKOUT7} (out), 49 DAP (power)

## LMK01000ISQE/NOPB
designator U?
1.6 GHz High Performance Clock Buffer, Divider, and Distributor, 48-pin LLP, Pb-Free; PartNumber: LMK01000ISQE/NOPB; Manufacturer: National Semiconductor; PackageTopMarking: NS*UZXYTTE#*K01000 I; PowerWise: N; CompType: Interface IC; High-Reliability: Y; DatasheetVersion: Jul-2009; PackageVersion: revB, May-2009; PackageReference: SQA48A; PackageDescription: LLP, Plastic, Quad, 7 x 7 x 0.8mm Body, 48 Lead, 0.5mm Pitch, No Pullback; RoHS: Y; PinCount: 48; Code_JEDEC: MO-220-WKKD-2; ComponentLink1Description: Manufacturer URL; ComponentLink1URL: http://www.national.com/; ComponentLink2Description: LMK01000 Datasheet; ComponentLink2URL: http://www.national.com/ds/LM/LMK01000.pdf; ComponentLink3Description: LMK01000 Web Page; ComponentLink3URL: http://www.national.com/pf/LM/LMK01000.html; ComponentLink4Description: SQA48A Package Page; ComponentLink4URL: http://www.national.com/packaging/folders/sqa48a.html
footprint SQA48A (QFN, 48-Leads, Body 7x7mm, Pitch 0.5mm, Thermal Pad 5.2x5.2mm, NSC Recommended)
pins: 1 GND (power), 2 NC, 3 VCC1 (power), 4 CLKuWIRE (in), 5 DATAuWIRE (in), 6 LEuWIRE (in), 7 NC, 8 VCC2 (power), 9 NC, 10 NC, 11 GOE (in), 12 TEST (out), 13 VCC3 (power), 14 CLKOUT0 (out), 15 ~{CLKOUT0} (out), 16 VCC4 (power), 17 CLKOUT1 (out), 18 ~{CLKOUT1} (out), 19 VCC5 (power), 20 CLKOUT2 (out), 21 ~{CLKOUT2} (out), 22 VCC6 (power), 23 CLKOUT3 (out), 24 ~{CLKOUT3} (out), 25 GND (power), 26 VCC7 (power), 27 ~{SYNC} (in), 28 CLKIN0 (in), 29 ~{CLKIN0} (in), 30 VCC8 (power), 31 VCC9 (power), 32 NC, 33 VCC10 (power), 34 CLKIN1 (in), 35 ~{CLKIN1} (in), 36 BIAS (in), 37 VCC11 (power), 38 CLKOUT4 (out), 39 ~{CLKOUT4} (out), 40 VCC12 (power), 41 CLKOUT5 (out), 42 ~{CLKOUT5} (out), 43 VCC13 (power), 44 CLKOUT6 (out), 45 ~{CLKOUT6} (out), 46 VCC14 (power), 47 CLKOUT7 (out), 48 ~{CLKOUT7} (out), 49 DAP (power)

## LMK01000ISQX/NOPB
designator U?
1.6 GHz High Performance Clock Buffer, Divider, and Distributor, 48-pin LLP, Pb-Free; PartNumber: LMK01000ISQX/NOPB; Manufacturer: National Semiconductor; PackageTopMarking: NS*UZXYTTE#*K01000 I; PowerWise: N; CompType: Interface IC; High-Reliability: Y; DatasheetVersion: Jul-2009; PackageVersion: revB, May-2009; PackageReference: SQA48A; PackageDescription: LLP, Plastic, Quad, 7 x 7 x 0.8mm Body, 48 Lead, 0.5mm Pitch, No Pullback; RoHS: Y; PinCount: 48; Code_JEDEC: MO-220-WKKD-2; ComponentLink1Description: Manufacturer URL; ComponentLink1URL: http://www.national.com/; ComponentLink2Description: LMK01000 Datasheet; ComponentLink2URL: http://www.national.com/ds/LM/LMK01000.pdf; ComponentLink3Description: LMK01000 Web Page; ComponentLink3URL: http://www.national.com/pf/LM/LMK01000.html; ComponentLink4Description: SQA48A Package Page; ComponentLink4URL: http://www.national.com/packaging/folders/sqa48a.html
footprint SQA48A (QFN, 48-Leads, Body 7x7mm, Pitch 0.5mm, Thermal Pad 5.2x5.2mm, NSC Recommended)
pins: 1 GND (power), 2 NC, 3 VCC1 (power), 4 CLKuWIRE (in), 5 DATAuWIRE (in), 6 LEuWIRE (in), 7 NC, 8 VCC2 (power), 9 NC, 10 NC, 11 GOE (in), 12 TEST (out), 13 VCC3 (power), 14 CLKOUT0 (out), 15 ~{CLKOUT0} (out), 16 VCC4 (power), 17 CLKOUT1 (out), 18 ~{CLKOUT1} (out), 19 VCC5 (power), 20 CLKOUT2 (out), 21 ~{CLKOUT2} (out), 22 VCC6 (power), 23 CLKOUT3 (out), 24 ~{CLKOUT3} (out), 25 GND (power), 26 VCC7 (power), 27 ~{SYNC} (in), 28 CLKIN0 (in), 29 ~{CLKIN0} (in), 30 VCC8 (power), 31 VCC9 (power), 32 NC, 33 VCC10 (power), 34 CLKIN1 (in), 35 ~{CLKIN1} (in), 36 BIAS (in), 37 VCC11 (power), 38 CLKOUT4 (out), 39 ~{CLKOUT4} (out), 40 VCC12 (power), 41 CLKOUT5 (out), 42 ~{CLKOUT5} (out), 43 VCC13 (power), 44 CLKOUT6 (out), 45 ~{CLKOUT6} (out), 46 VCC14 (power), 47 CLKOUT7 (out), 48 ~{CLKOUT7} (out), 49 DAP (power)

## LMK01010ISQ/NOPB
designator U?
1.6 GHz High Performance Clock Buffer, Divider, and Distributor, 48-pin LLP, Pb-Free; PartNumber: LMK01010ISQ/NOPB; Manufacturer: National Semiconductor; PackageTopMarking: NS*UZXYTTE#*K01010 I; PowerWise: N; CompType: Interface IC; High-Reliability: Y; DatasheetVersion: Jul-2009; PackageVersion: revB, May-2009; PackageReference: SQA48A; PackageDescription: LLP, Plastic, Quad, 7 x 7 x 0.8mm Body, 48 Lead, 0.5mm Pitch, No Pullback; RoHS: Y; PinCount: 48; Code_JEDEC: MO-220-WKKD-2; ComponentLink1Description: Manufacturer URL; ComponentLink1URL: http://www.national.com/; ComponentLink2Description: LMK01010 Datasheet; ComponentLink2URL: http://www.national.com/ds/LM/LMK01010.pdf; ComponentLink3Description: LMK01010 Web Page; ComponentLink3URL: http://www.national.com/pf/LM/LMK01010.html; ComponentLink4Description: SQA48A Package Page; ComponentLink4URL: http://www.national.com/packaging/folders/sqa48a.html
footprint SQA48A (QFN, 48-Leads, Body 7x7mm, Pitch 0.5mm, Thermal Pad 5.2x5.2mm, NSC Recommended)
pins: 1 GND (power), 2 NC, 3 VCC1 (power), 4 CLKuWIRE (in), 5 DATAuWIRE (in), 6 LEuWIRE (in), 7 NC, 8 VCC2 (power), 9 NC, 10 NC, 11 GOE (in), 12 TEST (out), 13 VCC3 (power), 14 CLKOUT0 (out), 15 ~{CLKOUT0} (out), 16 VCC4 (power), 17 CLKOUT1 (out), 18 ~{CLKOUT1} (out), 19 VCC5 (power), 20 CLKOUT2 (out), 21 ~{CLKOUT2} (out), 22 VCC6 (power), 23 CLKOUT3 (out), 24 ~{CLKOUT3} (out), 25 GND (power), 26 VCC7 (power), 27 ~{SYNC} (in), 28 CLKIN0 (in), 29 ~{CLKIN0} (in), 30 VCC8 (power), 31 VCC9 (power), 32 NC, 33 VCC10 (power), 34 CLKIN1 (in), 35 ~{CLKIN1} (in), 36 BIAS (in), 37 VCC11 (power), 38 CLKOUT4 (out), 39 ~{CLKOUT4} (out), 40 VCC12 (power), 41 CLKOUT5 (out), 42 ~{CLKOUT5} (out), 43 VCC13 (power), 44 CLKOUT6 (out), 45 ~{CLKOUT6} (out), 46 VCC14 (power), 47 CLKOUT7 (out), 48 ~{CLKOUT7} (out), 49 DAP (power)

## LMK01010ISQE/NOPB
designator U?
1.6 GHz High Performance Clock Buffer, Divider, and Distributor, 48-pin LLP, Pb-Free; PartNumber: LMK01010ISQE/NOPB; Manufacturer: National Semiconductor; PackageTopMarking: NS*UZXYTTE#*K01010 I; PowerWise: N; CompType: Interface IC; High-Reliability: Y; DatasheetVersion: Jul-2009; PackageVersion: revB, May-2009; PackageReference: SQA48A; PackageDescription: LLP, Plastic, Quad, 7 x 7 x 0.8mm Body, 48 Lead, 0.5mm Pitch, No Pullback; RoHS: Y; PinCount: 48; Code_JEDEC: MO-220-WKKD-2; ComponentLink1Description: Manufacturer URL; ComponentLink1URL: http://www.national.com/; ComponentLink2Description: LMK01010 Datasheet; ComponentLink2URL: http://www.national.com/ds/LM/LMK01010.pdf; ComponentLink3Description: LMK01010 Web Page; ComponentLink3URL: http://www.national.com/pf/LM/LMK01010.html; ComponentLink4Description: SQA48A Package Page; ComponentLink4URL: http://www.national.com/packaging/folders/sqa48a.html
footprint SQA48A (QFN, 48-Leads, Body 7x7mm, Pitch 0.5mm, Thermal Pad 5.2x5.2mm, NSC Recommended)
pins: 1 GND (power), 2 NC, 3 VCC1 (power), 4 CLKuWIRE (in), 5 DATAuWIRE (in), 6 LEuWIRE (in), 7 NC, 8 VCC2 (power), 9 NC, 10 NC, 11 GOE (in), 12 TEST (out), 13 VCC3 (power), 14 CLKOUT0 (out), 15 ~{CLKOUT0} (out), 16 VCC4 (power), 17 CLKOUT1 (out), 18 ~{CLKOUT1} (out), 19 VCC5 (power), 20 CLKOUT2 (out), 21 ~{CLKOUT2} (out), 22 VCC6 (power), 23 CLKOUT3 (out), 24 ~{CLKOUT3} (out), 25 GND (power), 26 VCC7 (power), 27 ~{SYNC} (in), 28 CLKIN0 (in), 29 ~{CLKIN0} (in), 30 VCC8 (power), 31 VCC9 (power), 32 NC, 33 VCC10 (power), 34 CLKIN1 (in), 35 ~{CLKIN1} (in), 36 BIAS (in), 37 VCC11 (power), 38 CLKOUT4 (out), 39 ~{CLKOUT4} (out), 40 VCC12 (power), 41 CLKOUT5 (out), 42 ~{CLKOUT5} (out), 43 VCC13 (power), 44 CLKOUT6 (out), 45 ~{CLKOUT6} (out), 46 VCC14 (power), 47 CLKOUT7 (out), 48 ~{CLKOUT7} (out), 49 DAP (power)

## LMK01010ISQX/NOPB
designator U?
1.6 GHz High Performance Clock Buffer, Divider, and Distributor, 48-pin LLP, Pb-Free; PartNumber: LMK01010ISQX/NOPB; Manufacturer: National Semiconductor; PackageTopMarking: NS*UZXYTTE#*K01010 I; PowerWise: N; CompType: Interface IC; High-Reliability: Y; DatasheetVersion: Jul-2009; PackageVersion: revB, May-2009; PackageReference: SQA48A; PackageDescription: LLP, Plastic, Quad, 7 x 7 x 0.8mm Body, 48 Lead, 0.5mm Pitch, No Pullback; RoHS: Y; PinCount: 48; Code_JEDEC: MO-220-WKKD-2; ComponentLink1Description: Manufacturer URL; ComponentLink1URL: http://www.national.com/; ComponentLink2Description: LMK01010 Datasheet; ComponentLink2URL: http://www.national.com/ds/LM/LMK01010.pdf; ComponentLink3Description: LMK01010 Web Page; ComponentLink3URL: http://www.national.com/pf/LM/LMK01010.html; ComponentLink4Description: SQA48A Package Page; ComponentLink4URL: http://www.national.com/packaging/folders/sqa48a.html
footprint SQA48A (QFN, 48-Leads, Body 7x7mm, Pitch 0.5mm, Thermal Pad 5.2x5.2mm, NSC Recommended)
pins: 1 GND (power), 2 NC, 3 VCC1 (power), 4 CLKuWIRE (in), 5 DATAuWIRE (in), 6 LEuWIRE (in), 7 NC, 8 VCC2 (power), 9 NC, 10 NC, 11 GOE (in), 12 TEST (out), 13 VCC3 (power), 14 CLKOUT0 (out), 15 ~{CLKOUT0} (out), 16 VCC4 (power), 17 CLKOUT1 (out), 18 ~{CLKOUT1} (out), 19 VCC5 (power), 20 CLKOUT2 (out), 21 ~{CLKOUT2} (out), 22 VCC6 (power), 23 CLKOUT3 (out), 24 ~{CLKOUT3} (out), 25 GND (power), 26 VCC7 (power), 27 ~{SYNC} (in), 28 CLKIN0 (in), 29 ~{CLKIN0} (in), 30 VCC8 (power), 31 VCC9 (power), 32 NC, 33 VCC10 (power), 34 CLKIN1 (in), 35 ~{CLKIN1} (in), 36 BIAS (in), 37 VCC11 (power), 38 CLKOUT4 (out), 39 ~{CLKOUT4} (out), 40 VCC12 (power), 41 CLKOUT5 (out), 42 ~{CLKOUT5} (out), 43 VCC13 (power), 44 CLKOUT6 (out), 45 ~{CLKOUT6} (out), 46 VCC14 (power), 47 CLKOUT7 (out), 48 ~{CLKOUT7} (out), 49 DAP (power)

## LMK01020ISQ/NOPB
designator U?
1.6 GHz High Performance Clock Buffer, Divider, and Distributor, 48-pin LLP, Pb-Free; PartNumber: LMK01020ISQ/NOPB; Manufacturer: National Semiconductor; PackageTopMarking: NS*UZXYTTE#*K01020 I; PowerWise: N; CompType: Interface IC; High-Reliability: Y; DatasheetVersion: Jul-2009; PackageVersion: revB, May-2009; PackageReference: SQA48A; PackageDescription: LLP, Plastic, Quad, 7 x 7 x 0.8mm Body, 48 Lead, 0.5mm Pitch, No Pullback; RoHS: Y; PinCount: 48; Code_JEDEC: MO-220-WKKD-2; ComponentLink1Description: Manufacturer URL; ComponentLink1URL: http://www.national.com/; ComponentLink2Description: LMK01020 Datasheet; ComponentLink2URL: http://www.national.com/ds/LM/LMK01020.pdf; ComponentLink3Description: LMK01020 Web Page; ComponentLink3URL: http://www.national.com/pf/LM/LMK01020.html; ComponentLink4Description: SQA48A Package Page; ComponentLink4URL: http://www.national.com/packaging/folders/sqa48a.html
footprint SQA48A (QFN, 48-Leads, Body 7x7mm, Pitch 0.5mm, Thermal Pad 5.2x5.2mm, NSC Recommended)
pins: 1 GND (power), 2 NC, 3 VCC1 (power), 4 CLKuWIRE (in), 5 DATAuWIRE (in), 6 LEuWIRE (in), 7 NC, 8 VCC2 (power), 9 NC, 10 NC, 11 GOE (in), 12 TEST (out), 13 VCC3 (power), 14 CLKOUT0 (out), 15 ~{CLKOUT0} (out), 16 VCC4 (power), 17 CLKOUT1 (out), 18 ~{CLKOUT1} (out), 19 VCC5 (power), 20 CLKOUT2 (out), 21 ~{CLKOUT2} (out), 22 VCC6 (power), 23 CLKOUT3 (out), 24 ~{CLKOUT3} (out), 25 GND (power), 26 VCC7 (power), 27 ~{SYNC} (in), 28 CLKIN0 (in), 29 ~{CLKIN0} (in), 30 VCC8 (power), 31 VCC9 (power), 32 NC, 33 VCC10 (power), 34 CLKIN1 (in), 35 ~{CLKIN1} (in), 36 BIAS (in), 37 VCC11 (power), 38 CLKOUT4 (out), 39 ~{CLKOUT4} (out), 40 VCC12 (power), 41 CLKOUT5 (out), 42 ~{CLKOUT5} (out), 43 VCC13 (power), 44 CLKOUT6 (out), 45 ~{CLKOUT6} (out), 46 VCC14 (power), 47 CLKOUT7 (out), 48 ~{CLKOUT7} (out), 49 DAP (power)